# Altium schematic symbol library LT4320IMSE.SCHLIB: 1 symbol
Pins are listed as number, name and electrical type; pins without a type are passive.

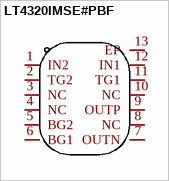
[diagram p0: symbol LT4320IMSE#PBF]

## LT4320IMSE#PBF
designator U??  (value not drawn)
Add into BOM: yes; Name: LT4320IMSE#PBF; Symbol: LT4320IMSE#PBF; Device: LT4320IMSE#PBF; LCSC Part Name: LT4320IMSE#PBF; Supplier Part: C580181; Manufacturer Part: LT4320IMSE#PBF; Supplier Footprint: MSOP-12-EP-0.65mm; JLCPCB Part Class: Extended Part; Datasheet: https://atta.szlcsc.com/upload/public/pdf/source/20200904/C672451_3866601E11BCA9D43DEBB9978F5AD036.pdf; Supplier: LCSC; Convert to PCB: yes
footprint MSOP-12_L4.0-W3.0-P0.65-LS4.9-BL-EP
3D model MSOP-12_L4.0-W3.0-H1.1-P0.65-LS4.9-BL-EP
pins: 1 IN2, 2 TG2, 3 NC, 4 NC, 5 BG2, 6 BG1, 7 OUTN, 8 NC, 9 OUTP, 10 NC, 11 TG1, 12 IN1, 13 EP